# Altium footprint library OSC160x200.PcbLib: 1 footprints
Each footprint in its own frame and in the unit in brackets; x right, y up, seen from the top. Pads: shape width x height; smd on the part's side, far side on the other; paste and mask are expansions set on the pad; w line width, h text height; cw(c..) or ccw(c..) is an arc to the next point about the centre after c.
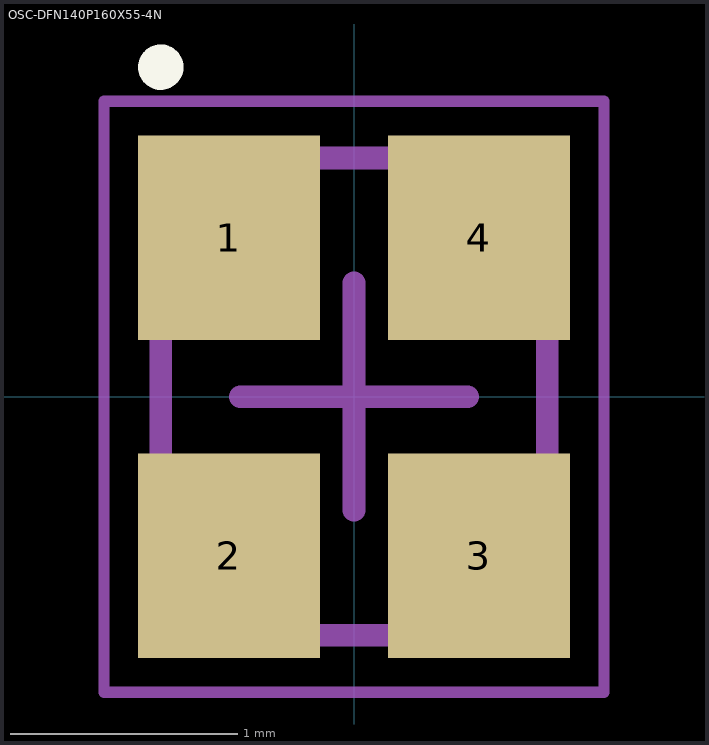
[diagram p0: the footprint, top view; thin cyan lines are the x and y axes]

## OSC-DFN140P160X55-4N [mm] "DFN, 4-Leads, Body 2.00x1.60mm, Pitch 1.40mm, IPC Medium Density"
height 0.55
pads (4):
  rect 0.8x0.9 smd: 1(-0.55,0.7) 2(-0.55,-0.7) 3(0.55,-0.7) 4(0.55,0.7)
Top Overlay:
  circle w0.1: c-0.85,1.45 r0.05
Mechanical 13:
  lines w0.1: -0.85,-1.05 -0.85,1.05 0.85,1.05 0.85,-1.05 -0.85,-1.05
Mechanical 15:
  lines w0.05: -1.1,-1.3 -1.1,1.3 1.1,1.3 1.1,-1.3 -1.1,-1.3
  lines w0.1: -0.5,0 0.5,0 ; 0,-0.5 0,0.5
3D body: height 0.55, standoff 0, extent -0.85,-1.05 0.85,1.05